# Altium schematic symbol library ABM3-12.000MHZ-D2Y-T.SchLib: 1 symbol
Pins are listed as number, name and electrical type; pins without a type are passive.

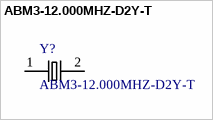
[diagram p0: symbol ABM3-12.000MHZ-D2Y-T]

## ABM3-12.000MHZ-D2Y-T
designator Y?
12MHz Â±20ppm Crystal 18pF 60 Ohms 2-SMD, No Lead; MF: Abracon; MP: ABM3-12.000MHZ-D2Y-T; SnapEDA_Link: https://www.snapeda.com/parts/ABM3-12.000MHZ-D2Y-T/Abracon%20LLC/view-part/418099/?ref=snap; Digi-Key_Purchase_URL: https://www.digikey.ca/product-detail/en/abracon-llc/ABM3-12.000MHZ-D2Y-T/535-10634-1-ND/2344636?utm_source=snapeda&utm_medium=aggregator&utm_campaign=symbol; Package: SMD-2 Abracon; Digi-Key_Part_Number: 535-10634-1-ND; Value: *
footprint *XTAL500X320X130N
pins: 1, 2